# EAGLE library part SAMTEC-SSM-115-X-SV (library SAMTEC-SSM-115-X-SV)
Check prices <https://pricing.snapeda.com/parts/SSM-115-S-SV/Samtec/view-part?ref=eda>
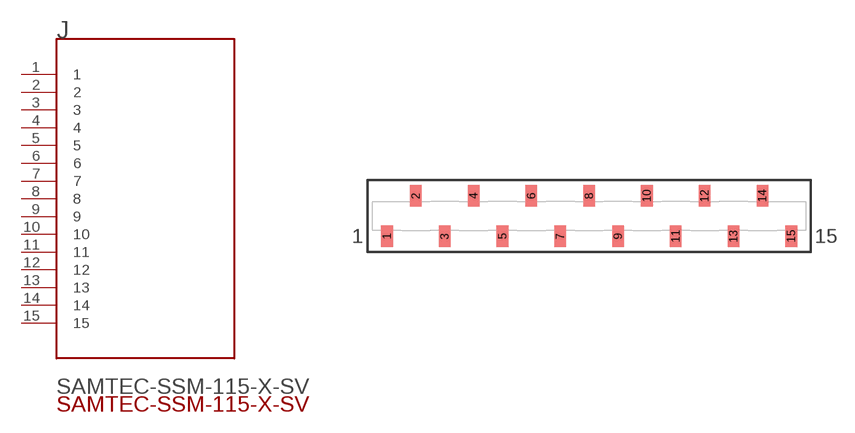
[diagram p0: symbol with the pads of SAMTEC-SSM-115-X-SV; footprint SAMTEC-SSM-115-X-SV]

Designator prefix J

## SAMTEC-SSM-115-X-SVJ (AVAILABILITY: Bad; DESCRIPTION: 15 Position Receptacle, Pass Through Connector Surface Mount; MF: Samtec; MP: SSM-115-S-SV; PACKAGE: None; PRICE: None; PURCHASE-URL: https://pricing.snapeda.com/search/part/SSM-115-S-SV/?ref=eda)  [SAMTEC-SSM-115-X-SV]
1  1
2  2
3  3
4  4
5  5
6  6
7  7
8  8
9  9
10  10
11  11
12  12
13  13
14  14
15  15

## Footprint SAMTEC-SSM-115-X-SV (pad centres in mm)
translated Allegro footprint
smd 1.02 x 1.905: 1 -17.78,-1.778; 2 -15.24,1.778; 3 -12.7,-1.778; 4 -10.16,1.778; 5 -7.62,-1.778; 6 -5.08,1.778; 7 -2.54,-1.778; 8 0,1.778; 9 2.54,-1.778; 10 5.08,1.778; 11 7.62,-1.778; 12 10.16,1.778; 13 12.7,-1.778; 14 15.24,1.778; 15 17.78,-1.778